# EAGLE library part AD5453YRMZ-REEL7 (library open_covg)
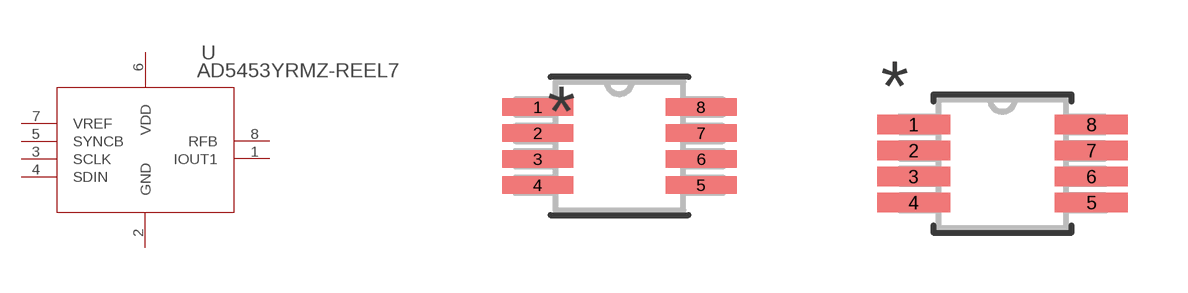
[diagram p6: symbol with the pads of RM_8; footprints RM_8, RM_8-M]

Designator prefix U

## AD5453YRMZ-REEL7 (BUILT_BY: EMA_UL_Team; MANUFACTURER_PART_NUMBER: AD5453YRMZ-REEL7; VENDOR: Analog Devices Inc)  [RM_8]
1  IOUT1  pas
2  GND  pas
3  SCLK  pas
4  SDIN  pas
5  SYNCB  pas
6  VDD  pwr
7  VREF  pas
8  RFB  pas

## AD5453YRMZ-REEL7RM_8-M (BUILT_BY: EMA_UL_Team; MANUFACTURER_PART_NUMBER: AD5453YRMZ-REEL7; VENDOR: Analog Devices Inc)  [RM_8-M]
Pads as for RM_8

## AD5453YRMZ-REEL7RM_8-L (BUILT_BY: EMA_UL_Team; MANUFACTURER_PART_NUMBER: AD5453YRMZ-REEL7; VENDOR: Analog Devices Inc)  [RM_8-L]
Pads as for RM_8

## Footprint RM_8 (pad centres in mm)
smd 1.778 x 0.432: 1 -2.045,0.975; 2 -2.045,0.325; 3 -2.045,-0.325; 4 -2.045,-0.975; 5 2.045,-0.975; 6 2.045,-0.325; 7 2.045,0.325; 8 2.045,0.975

## Footprint RM_8-M (pad centres in mm)
smd 1.829 x 0.483: 1 -2.223,0.975; 2 -2.223,0.325; 3 -2.223,-0.325; 4 -2.223,-0.975; 5 2.223,-0.975; 6 2.223,-0.325; 7 2.223,0.325; 8 2.223,0.975

## Footprint RM_8-L (pad centres in mm)
smd 1.219 x 0.381: 1 -2.121,0.975; 2 -2.121,0.325; 3 -2.121,-0.325; 4 -2.121,-0.975; 5 2.121,-0.975; 6 2.121,-0.325; 7 2.121,0.325; 8 2.121,0.975